# Altium footprint library Pasive.PcbLib: 34 footprints (part 2 of 3)
Each footprint in its own frame and in the unit in brackets; x right, y up, seen from the top. Pads: shape width x height; smd on the part's side, far side on the other; paste and mask are expansions set on the pad; w line width, h text height; cw(c..) or ccw(c..) is an arc to the next point about the centre after c.
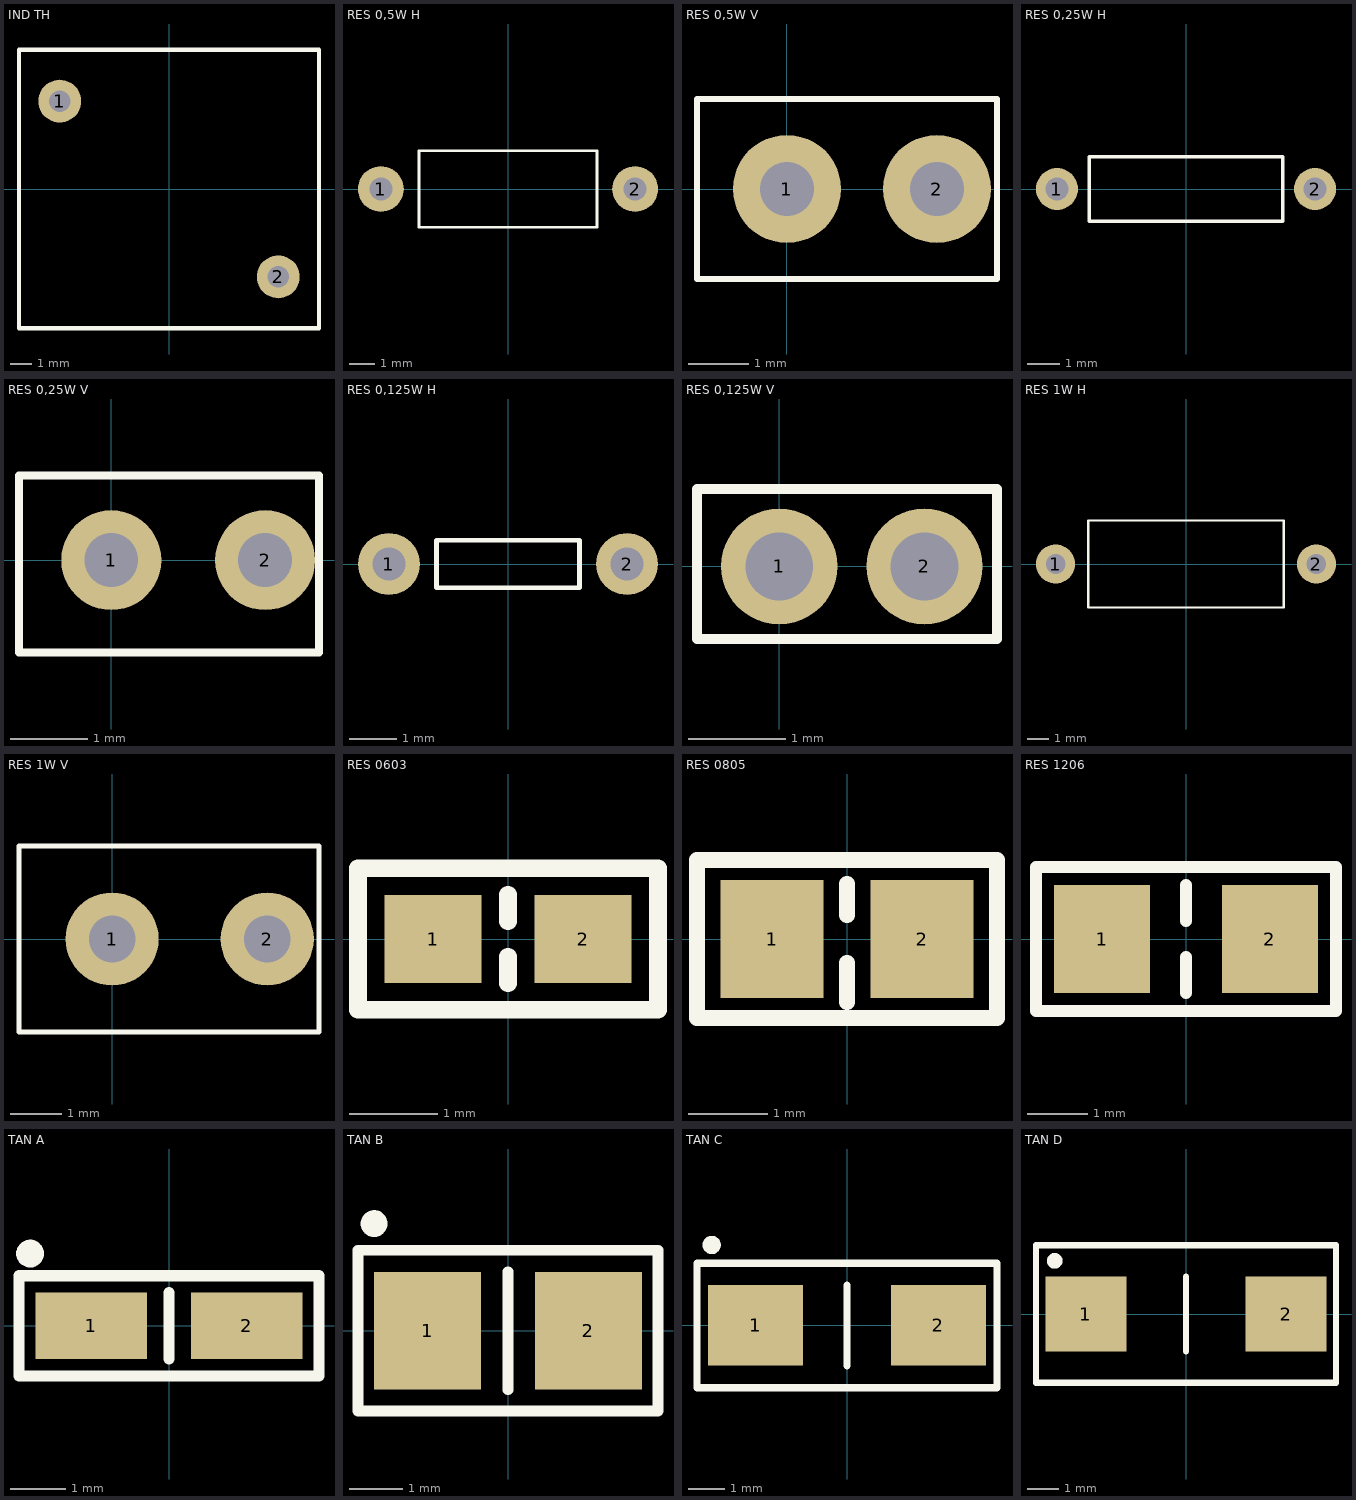
[diagram p1: the footprints below, top view; thin cyan lines are the x and y axes]

## IND TH [mm]
pads (2):
  round 2 hole 1: 1(-5.1,4.1) 2(5.1,-4.1)
Top Overlay:
  lines w0.2: -7,-6.5 7,-6.5 7,6.5 -7,6.5 -7,-6.5

## RES 0,5W H [mm]
pads (2):
  round 1.8 hole 0.9: 1(-5,0) 2(5,0)
Top Overlay:
  lines w0.1: -3.5,-1.5 -3.5,1.5 3.5,1.5 3.5,-1.5 -3.5,-1.5
3D body "RES 0,5W-H.stp": height 3.21, standoff -3.7, extent -5.397,-1.506 5.397,1.509

## RES 0,5W V [mm]
pads (2):
  round 1.8 hole 0.9: 1(0,0) 2(2.5,0)
Top Overlay:
  lines w0.1: -1.5,-1.5 -1.5,1.5 3.5,1.5 3.5,-1.5 -1.5,-1.5
3D body "RES 0,5W-V.stp": height 10, standoff -4.85, extent -1.501,-1.509 2.901,1.5

## RES 0,25W H [mm]
pads (2):
  round 1.3 hole 0.7: 1(-4,0) 2(4,0)
Top Overlay:
  lines w0.1: -3,-1 3,-1 3,1 -3,1 -3,-1
3D body "RES 0,25W-H.stp": height 2.46, standoff -4.1, extent -4.249,-1.151 4.25,1.161

## RES 0,25W V [mm]
pads (2):
  round 1.3 hole 0.7: 1(0,0) 2(2,0)
Top Overlay:
  lines w0.1: -1.2,-1.2 2.7,-1.2 2.7,1.1 -1.2,1.1 -1.2,-1.2
3D body "RES 0,25W-V.stp": height 8.75, standoff -4, extent -1.179,-1.213 2.229,1.1

## RES 0,125W H [mm]
pads (2):
  round 1.3 hole 0.7: 1(-2.5,0) 2(2.5,0)
Top Overlay:
  lines w0.1: -1.5,-0.5 1.5,-0.5 1.5,0.5 -1.5,0.5 -1.5,-0.5
3D body "RES 0,125W-H.stp": height 1.92, standoff -4.3, extent -2.75,-0.818 2.75,0.826

## RES 0,125W V [mm]
pads (2):
  round 1.2 hole 0.7: 1(0,0) 2(1.5,0)
Top Overlay:
  lines w0.1: -0.85,-0.75 -0.85,0.8 2.25,0.8 2.25,-0.75 -0.85,-0.75
3D body "RES 0,125W-V.stp": height 5.82, standoff -4.33, extent -0.836,-0.8 1.736,0.844

## RES 1W H [mm]
pads (2):
  round 1.8 hole 0.9: 1(-6,0) 2(6,0)
Top Overlay:
  lines w0.1: -4.5,-2 4.5,-2 4.5,2 -4.5,2 -4.5,-2
3D body "RES 1W-H.stp": height 3.91, standoff -3.3, extent -6.397,-1.804 6.397,1.808

## RES 1W V [mm]
pads (2):
  round 1.8 hole 0.9: 1(0,0) 2(3,0)
Top Overlay:
  lines w0.1: -1.8,-1.8 -1.8,1.8 4,1.8 4,-1.8 -1.8,-1.8
3D body "RES 1W-V.stp": height 12, standoff -4.6, extent -1.802,-1.8 3.402,1.812

## RES 0603 [mm] "Chip Capacitor; Body 1.6 x 0.8 mm (LxW typ)"
height 0.87
pads (2):
  rect 1.1x1 smd: 1(-0.85,0) 2(0.85,0)
Top Overlay:
  lines w0.2: 0,-0.5 0,-0.2 ; 0,0.2 0,0.5 ; -1.7,-0.8 1.7,-0.8 1.7,0.8 -1.7,0.8 -1.7,-0.8
3D body "0603 resistor.STEP": height 0.45, standoff 0, extent -0.8,-0.4 0.8,0.4

## RES 0805 [mm] "Chip Capacitor; Body 2.0 x 1.2 mm (LxW typ)"
height 1.3
pads (2):
  rect 1.3x1.5 smd: 1(-0.95,0) 2(0.95,0)
Top Overlay:
  lines w0.2: 0,-0.8 0,-0.3 ; 0,0.3 0,0.7 ; -1.9,-1 -1.9,1 1.9,1 1.9,-1 -1.9,-1
3D body "0805 resistor.STEP": height 0.6, standoff 0, extent -0.95,-0.625 1.05,0.625

## RES 1206 [mm] "Chip Capacitor; Body 3.2 x 1.6 mm (LxW typ)"
height 1.5
pads (2):
  rect 1.6x1.8 smd: 1(-1.4,0) 2(1.4,0)
Top Overlay:
  lines w0.2: 0,-0.9 0,-0.3 ; 0,0.3 0,0.9 ; -2.5,-1.2 -2.5,1.2 2.5,1.2 2.5,-1.2 -2.5,-1.2
3D body "1206 resistor.STEP": height 0.6, standoff 0, extent -1.575,-0.8 1.625,0.8

## TAN A [mm] "Capacitor, SM Tantalum; Body 3.2 x 1.6 mm (LxW typ)"
height 1.8
pads (2):
  rect 2x1.2 smd: 1(-1.4,0) 2(1.4,0)
Top Overlay:
  circle w0.25: c-2.5,1.3 r0.125
  lines w0.2: 0,-0.6 0,0.6 ; -2.7,-0.9 -2.7,0.9 2.7,0.9 2.7,-0.9 -2.7,-0.9
3D body "A.stp": height 1.6, standoff 0, extent -1.6,-0.8 1.6,0.8

## TAN B [mm] "Capacitor, SM Tantalum; Body 3.5 x 2.8 mm (LxW typ)"
height 2.1
pads (2):
  rect 2x2.2 smd: 1(-1.5,0) 2(1.5,0)
Top Overlay:
  circle w0.25: c-2.5,2 r0.125
  lines w0.2: 0,-1.1 0,1.1 ; -2.8,-1.5 2.8,-1.5 2.8,1.5 -2.8,1.5 -2.8,-1.5
3D body "B.stp": height 1.9, standoff 0, extent -1.75,-1.4 1.75,1.4

## TAN C [mm] "Capacitor, SM Tantalum; Body 6.0 x 3.2 mm (LxW typ)"
height 2.8
pads (2):
  rect 2.6x2.2 smd: 1(-2.5,0) 2(2.5,0)
Top Overlay:
  circle w0.25: c-3.7,2.2 r0.125
  lines w0.2: 0,-1.1 0,1.1 ; -4.1,-1.7 4.1,-1.7 4.1,1.7 -4.1,1.7 -4.1,-1.7
3D body "C.stp": height 2.5, standoff 0, extent -3,-1.6 3,1.6

## TAN D [mm] "Capacitor, SM Tantalum; Body 7.3 x 4.3 mm (LxW typ)"
height 3.1
pads (2):
  rect 2.6x2.4 smd: 1(-3.2,0) 2(3.2,0)
Top Overlay:
  circle w0.25: c-4.2,1.7 r0.125
  lines w0.2: 0,-1.2 0,1.2 ; -4.8,-2.2 4.8,-2.2 4.8,2.2 -4.8,2.2 -4.8,-2.2
3D body "D.stp": height 2.8, standoff 0, extent -3.65,-2.15 3.65,2.15